# Altium schematic symbol library APDS-9007.Schlib: 1 symbol
Pins are listed as number, name and electrical type; pins without a type are passive.

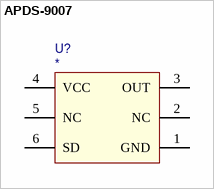
[diagram p0: symbol APDS-9007]

## APDS-9007
designator U?
pins: 1 GND, 2 NC, 3 OUT, 4 VCC, 5 NC, 6 SD